# EAGLE library part DF13-14 (library Taylor)
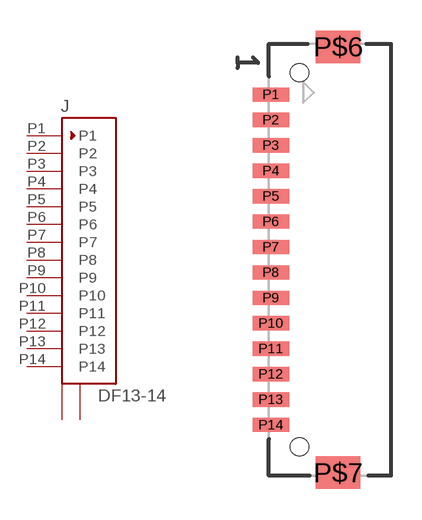
[diagram p36: symbol with the pads of DF13-14; footprint DF13-14]

Designator prefix J

## DF13-14  [DF13-14]
P1  P1
P2  P2
P3  P3
P4  P4
P5  P5
P6  P6
P7  P7
P8  P8
P9  P9
P10  P10
P11  P11
P12  P12
P13  P13
P14  P14
P$6  P$1
P$7  P$2

## Footprint DF13-14 (pad centres in mm)
smd 1.8 x 0.7: P1 -0.9,8.125; P2 -0.9,6.875; P3 -0.9,5.625; P4 -0.9,4.375; P5 -0.9,3.125; P6 -0.9,1.875; P7 -0.9,0.625; P8 -0.9,-0.625; P9 -0.9,-1.875; P10 -0.9,-3.125; P11 -0.9,-4.375; P12 -0.9,-5.625; P13 -0.9,-6.875; P14 -0.9,-8.125
smd 2.2 x 1.6: P$6 2.4,10.475; P$7 2.4,-10.475
hole 0.9 at 0.5,9.2
hole 0.9 at 0.5,-9.2